# Altium schematic symbol library ESD_LittleFuse_SP3304NUTG _3V3.SchLib: 1 symbol
Pins are listed as number, name and electrical type; pins without a type are passive.

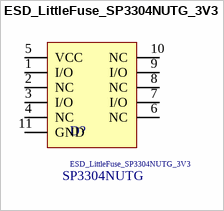
[diagram p0: symbol ESD_LittleFuse_SP3304NUTG_3V3]

## ESD_LittleFuse_SP3304NUTG_3V3
designator D?  Series: SP3304NUTG
ESD Suppressors / TVS Diodes 4CH 20A 3.3V 3.5pF Lightning Protection; Supplier Part Number 1: 576-SP3304NUTG; Supplier 1: Mouser
footprint ESD_LittleFuse_SP3304NUTG_3V3
pins: 1 I/O, 2 NC, 3 I/O, 4 NC, 5 VCC, 6 NC, 7 I/O, 8 NC, 9 I/O, 10 NC, 11 GND